# EAGLE library part RJ45-ASSMANN (library rj45)
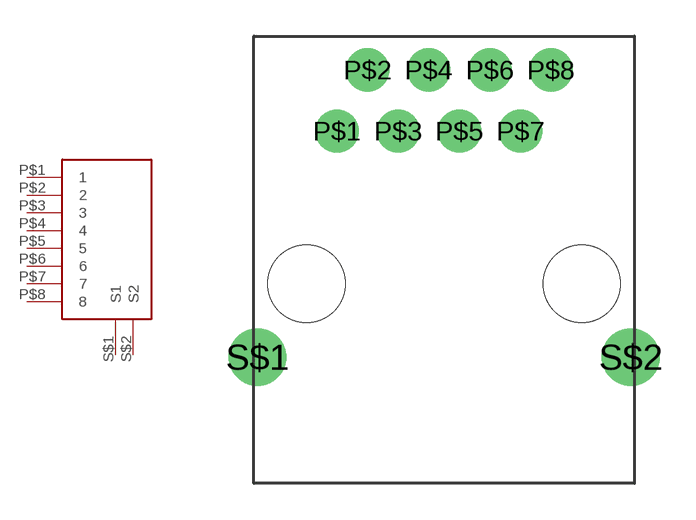
[diagram p0: symbol with the pads of RJ45-ASSMANN; footprint RJ45-ASSMANN]

Designator prefix C

## RJ45-ASSMANN  [RJ45-ASSMANN]
P$1  1
P$2  2
P$3  3
P$4  4
P$5  5
P$6  6
P$7  7
P$8  8
S$1  S1
S$2  S2

## Footprint RJ45-ASSMANN (pad centres in mm)
drill 0.9 pad 1.8: P$1 -4.445,6.35; P$2 -3.175,8.89; P$3 -1.905,6.35; P$4 -0.635,8.89; P$5 0.635,6.35; P$6 1.905,8.89; P$7 3.175,6.35; P$8 4.445,8.89
drill 1.6: S$1 -7.75,-3.05; S$2 7.75,-3.05
hole 3.2 at -5.715,0
hole 3.2 at 5.715,0